# Altium schematic symbol library WE-EHPI.SchLib: 3 symbols
Pins are listed as number, name and electrical type; pins without a type are passive.

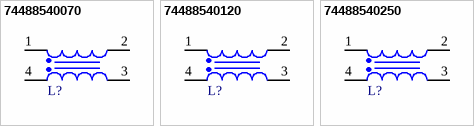
[diagram p0: symbols 74488540070 to 74488540250]

## 74488540070
designator L?, comment 7µH / 70000µH  (value not drawn)
WE-EHPI SMT Energy Harvesting Coupled Inductor, size 5838, 7µH / 70000µH, 1:100, 1.9A; Manufacturer Part Number: 74488540070; Manufacturer: Wurth Elektronik; Case/Size Code: 5838; DC Resistance 1: 0.085Ω; DC Resistance 2: 205Ω; DC Resistance Max 1: 0.095Ω; DC Resistance Max 2: 240Ω; Saturation Current: 1.3A; Category: Coupled Power Inductors; Match Code: WE-EHPI; ComponentLink1Description: Website Link; ComponentLink1URL: https://www.we-online.com/redexpert/article/74488540070?ad; ComponentLink2Description: Datasheet Link; ComponentLink2URL: https://www.we-online.com/redexpert/spec/74488540070?ad; Mount: Surface Mount; Operating Temperature Max: 125°C; Operating Temperature Min: -40°C; Packaging: Tape and Reel; Length: 6mm; Width: 6mm; Height: 4mm; Inductance 1: 7µH; Inductance 2: 70000µH; Rated Current: 1.9A; Turns Ratio: 1:100
footprint WE-EHPI_5838
simulation model 5838_74488540070_7u
pins: 1, 2, 3, 4

## 74488540120
designator L?, comment 13µH / 33000µH  (value not drawn)
WE-EHPI SMT Energy Harvesting Coupled Inductor, size 5838, 13µH / 33000µH, 1:50, 1.7A; Manufacturer Part Number: 74488540120; Manufacturer: Wurth Elektronik; Case/Size Code: 5838; DC Resistance 1: 0.09Ω; DC Resistance 2: 135Ω; DC Resistance Max 1: 0.1Ω; DC Resistance Max 2: 155Ω; Saturation Current: 1A; Category: Coupled Power Inductors; Match Code: WE-EHPI; ComponentLink1Description: Website Link; ComponentLink1URL: https://www.we-online.com/redexpert/article/74488540120?ad; ComponentLink2Description: Datasheet Link; ComponentLink2URL: https://www.we-online.com/redexpert/spec/74488540120?ad; Mount: Surface Mount; Operating Temperature Max: 125°C; Operating Temperature Min: -40°C; Packaging: Tape and Reel; Length: 6mm; Width: 6mm; Height: 4mm; Inductance 1: 13µH; Inductance 2: 33000µH; Rated Current: 1.7A; Turns Ratio: 1:50
footprint WE-EHPI_5838
simulation model 5838_74488540120_13u
pins: 1, 2, 3, 4

## 74488540250
designator L?, comment 25µH / 10000µH  (value not drawn)
WE-EHPI SMT Energy Harvesting Coupled Inductor, size 5838, 25µH / 10000µH, 1:20, 1.5A; Manufacturer Part Number: 74488540250; Manufacturer: Wurth Elektronik; Case/Size Code: 5838; DC Resistance 1: 0.2Ω; DC Resistance 2: 42Ω; DC Resistance Max 1: 0.24Ω; DC Resistance Max 2: 48Ω; Saturation Current: 0.7A; Category: Coupled Power Inductors; Match Code: WE-EHPI; ComponentLink1Description: Website Link; ComponentLink1URL: https://www.we-online.com/redexpert/article/74488540250?ad; ComponentLink2Description: Datasheet Link; ComponentLink2URL: https://www.we-online.com/redexpert/spec/74488540250?ad; Mount: Surface Mount; Operating Temperature Max: 125°C; Operating Temperature Min: -40°C; Packaging: Tape and Reel; Length: 6mm; Width: 6mm; Height: 4mm; Inductance 1: 25µH; Inductance 2: 10000µH; Rated Current: 1.5A; Turns Ratio: 1:20
footprint WE-EHPI_5838
simulation model 5838_74488540250_25u
pins: 1, 2, 3, 4